# EAGLE library part AUIRB24427S (library ir)
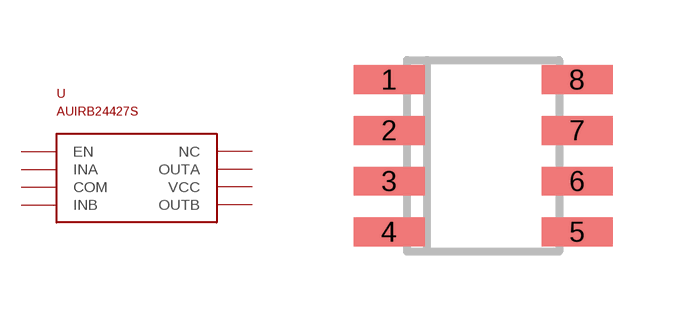
[diagram p6: symbol with the pads of AUIRB24427S; footprint AUIRB24427S]

Designator prefix U

## AUIRB24427S  [AUIRB24427S]
1  EN
2  INA
3  COM
4  INB
5  OUTB
6  VCC
7  OUTA
8  NC

## Footprint AUIRB24427S (pad centres in mm)
smd 1.78 x 0.72: 1 -2.35,1.905; 2 -2.35,0.635; 3 -2.35,-0.635; 4 -2.35,-1.905; 5 2.35,-1.905; 6 2.35,-0.635; 7 2.35,0.635; 8 2.35,1.905